# Altium schematic symbol library 2SB815-6-TB-E_PNP.SchLib: 1 symbol
Pins are listed as number, name and electrical type; pins without a type are passive.

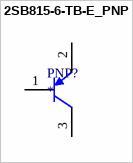
[diagram p0: symbol 2SB815-6-TB-E_PNP]

## 2SB815-6-TB-E_PNP
designator PNP?
pins: 1 B, 2 E, 3 C